# Altium footprint library POT 100K.PcbLib: 1 footprints
Each footprint in its own frame and in the unit in brackets; x right, y up, seen from the top. Pads: shape width x height; smd on the part's side, far side on the other; paste and mask are expansions set on the pad; w line width, h text height; cw(c..) or ccw(c..) is an arc to the next point about the centre after c.
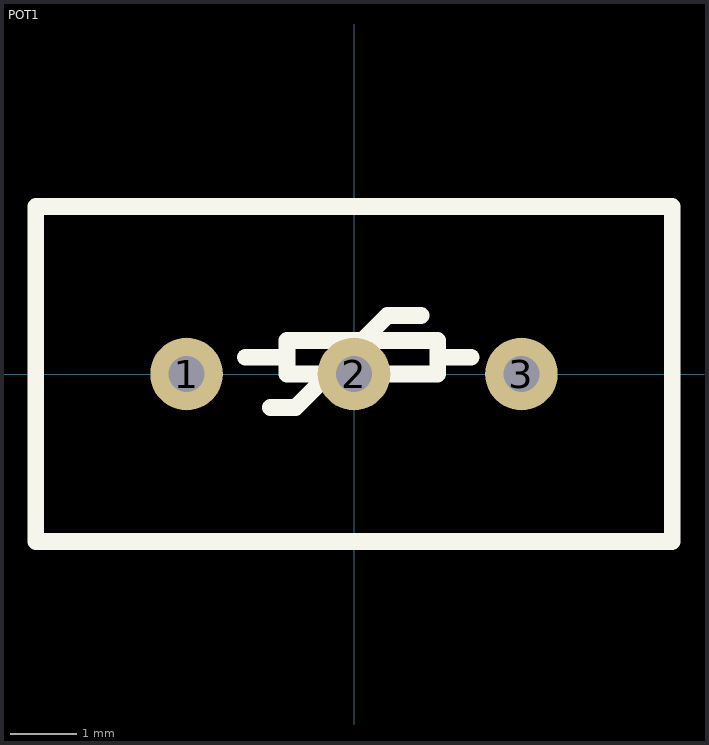
[diagram p0: the footprint, top view; thin cyan lines are the x and y axes]

## POT1 [mm] "TRIMMER 100K OHM 0.5W PC PIN TOP"
pads (3):
  round 1.1 hole 0.55: 1(-2.54,0) 2(0,0) 3(2.54,0)
Top Overlay:
  lines w0.254: -1.651,0.254 -1.016,0.254 ; -1.27,-0.508 -0.889,-0.508 0.508,0.889 1.016,0.889 ; 1.27,0.254 1.778,0.254 ; -4.826,-2.54 4.826,-2.54 4.826,2.54 -4.826,2.54 -4.826,-2.54 ; -1.016,0 -1.016,0.508 1.27,0.508 1.27,0 -1.016,0
3D body "User Library-Potenciometro Vertical.step": height 12.46, standoff -5.04, extent -4.587,-2.4 4.613,2.4